# Altium schematic symbol library L1210.Schlib: 1 symbol
Pins are listed as number, name and electrical type; pins without a type are passive.

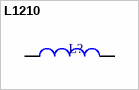
[diagram p0: symbol L1210]

## L1210
designator L?  (value not drawn)
1210 Chip Inductor - Standard
pins: 1, 2